# EAGLE library part 418217270908 (library Wurth_Elektronik_Electromechanic_Switch_rev16b)
WS-RA 2.54 mm right angled compact THT Dip Switch with raised actuator, 8 Pole
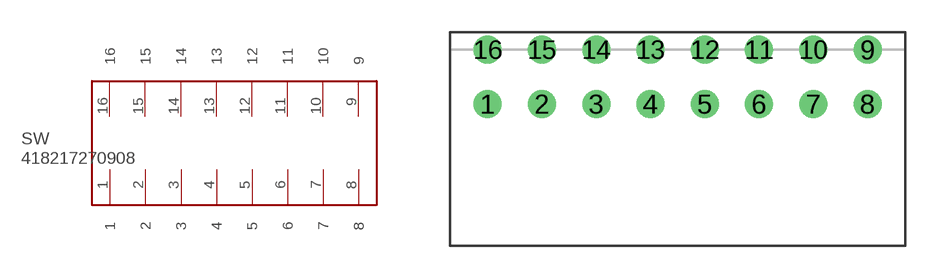
[diagram p62: symbol with the pads of 418217270908; footprint 418217270908]

Designator prefix SW

## 418217270908  [418217270908]
1  1
2  2
3  3
4  4
5  5
6  6
7  7
8  8
9  9
10  10
11  11
12  12
13  13
14  14
15  15
16  16

## Footprint 418217270908 (pad centres in mm)
WS-RA 2.54 mm right angled compact THT Dip Switch with raised actuator, 8 Pole
drill 0.8: 1 -8.89,-1.27; 2 -6.35,-1.27; 3 -3.81,-1.27; 4 -1.27,-1.27; 5 1.27,-1.27; 6 3.81,-1.27; 7 6.35,-1.27; 8 8.89,-1.27; 9 8.89,1.27; 10 6.35,1.27; 11 3.81,1.27; 12 1.27,1.27; 13 -1.27,1.27; 14 -3.81,1.27; 15 -6.35,1.27; 16 -8.89,1.27